# EAGLE library part SA555N (library ST Microelectronics)
General-purpose single bipolar timers
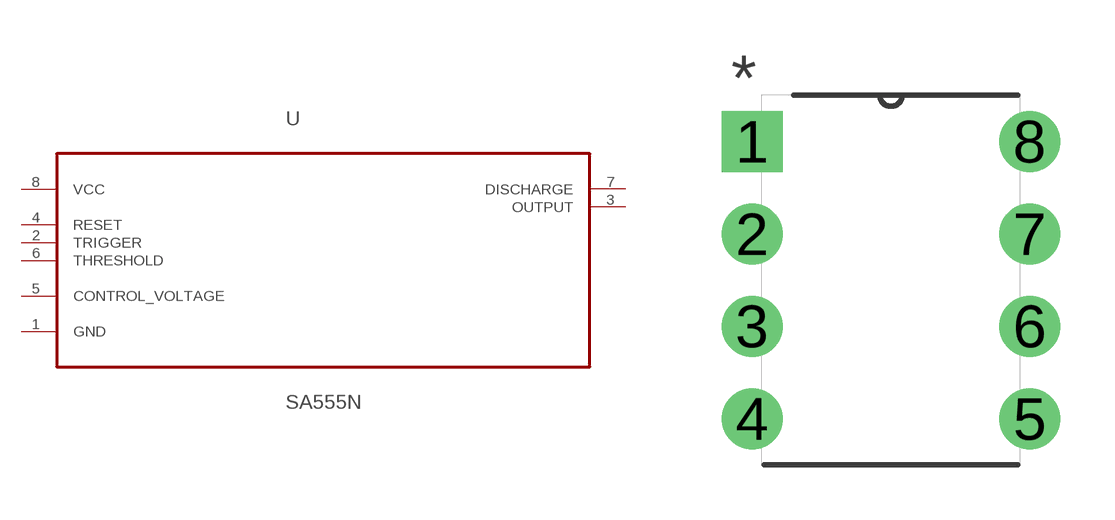
[diagram p289: symbol with the pads of DIP254P762X533-8; footprint DIP254P762X533-8]

Designator prefix U

## SA555N (MPN: SA555N; OC_FARNELL: 1311849; OC_NEWARK: 89K1501; PACKAGE: DIP-8; SUPPLIER: STMICROELECTRONICS)  [DIP254P762X533-8]
1  GND  pas
2  TRIGGER  in
3  OUTPUT  out
4  RESET  in
5  CONTROL_VOLTAGE  in
6  THRESHOLD  in
7  DISCHARGE  out
8  VCC  pwr

## Footprint DIP254P762X533-8 (pad centres in mm)
drill 1.118 square: 1 -7.62,7.62
drill 1.118: 2 -7.62,5.08; 3 -7.62,2.54; 4 -7.62,0; 5 0,0; 6 0,2.54; 7 0,5.08; 8 0,7.62